# EAGLE library part CON_MOLEX_CMC_36638_0006 (library own_parts2)
Molex CMC 36638-0006 36 Pin Molex Product Details <https://www.molex.com/molex/products/part-detail/pcb_headers/0366380006>
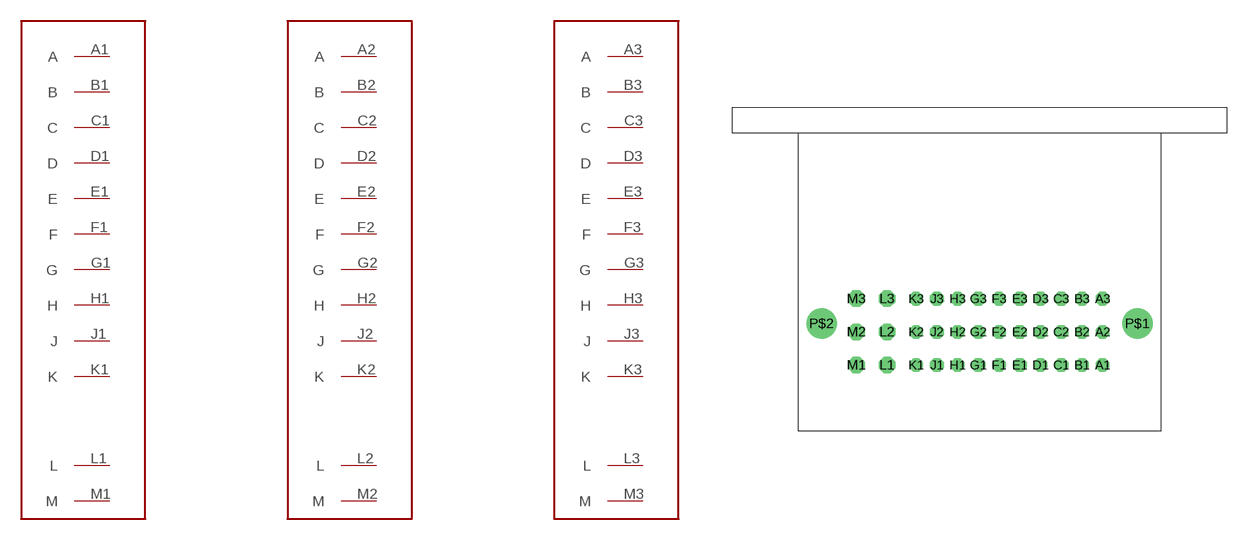
[diagram p7: symbol with the pads of CON_MOLEX_CMC_36638_0006; footprint CON_MOLEX_CMC_36638_0006]

Designator prefix CON; gates G$1=CON_MOLEX_CMC_12P G$2=CON_MOLEX_CMC_12P G$3=CON_MOLEX_CMC_12P

## CON_MOLEX_CMC_36638_0006  [CON_MOLEX_CMC_36638_0006]
A1  G$1:A
A2  G$2:A
A3  G$3:A
B1  G$1:B
B2  G$2:B
B3  G$3:B
C1  G$1:C
C2  G$2:C
C3  G$3:C
D1  G$1:D
D2  G$2:D
D3  G$3:D
E1  G$1:E
E2  G$2:E
E3  G$3:E
F1  G$1:F
F2  G$2:F
F3  G$3:F
G1  G$1:G
G2  G$2:G
G3  G$3:G
H1  G$1:H
H2  G$2:H
H3  G$3:H
J1  G$1:J
J2  G$2:J
J3  G$3:J
K1  G$1:K
K2  G$2:K
K3  G$3:K
L1  G$1:L
L2  G$2:L
L3  G$3:L
M1  G$1:M
M2  G$2:M
M3  G$3:M

## Footprint CON_MOLEX_CMC_36638_0006 (pad centres in mm)
drill 1.1 octagon: A1 29.7,0; A2 29.7,4; A3 29.7,8; B1 27.2,0; B2 27.2,4; B3 27.2,8; C1 24.7,0; C2 24.7,4; C3 24.7,8; D1 22.2,0; D2 22.2,4; D3 22.2,8; E1 19.7,0; E2 19.7,4; E3 19.7,8; F1 17.2,0; F2 17.2,4; F3 17.2,8; G1 14.7,0; G2 14.7,4; G3 14.7,8; H1 12.2,0; H2 12.2,4; H3 12.2,8; J1 9.7,0; J2 9.7,4; J3 9.7,8; K1 7.2,0; K2 7.2,4; K3 7.2,8
drill 1.1 pad 2 octagon: L1 3.7,0; L2 3.7,4; L3 3.7,8; M1 0,0; M2 0,4; M3 0,8
drill 2.7: P$1 33.9,5; P$2 -4.2,5